# EAGLE library part ZLINEIN_CELL (library _mtvl.cells)
Dual Balanced Input "cell" vith servo DC offset correction. Designed by Kirill V.Trepakov 2014 - 2018
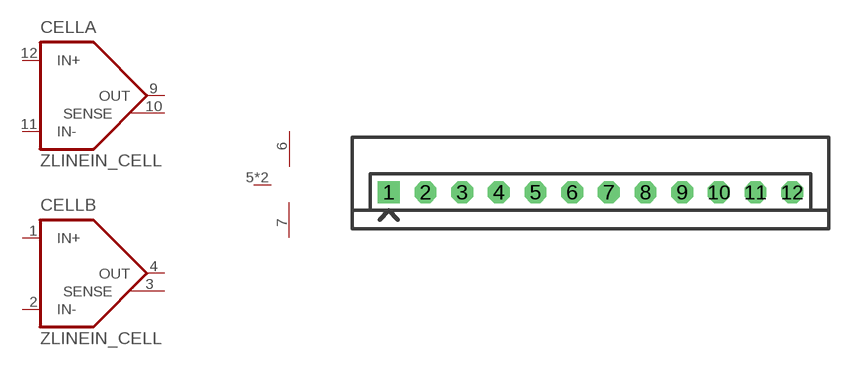
[diagram p2: symbol with the pads of SIP-12-H; footprint SIP-12-H]

Designator prefix CELL; gates A=BAL_RECEIVER B=BAL_RECEIVER G$3=PWR+/-/GND

## ZLINEIN_CELL  [SIP-12-H]
1  B:IN+
2  B:IN-
3  B:SENSE
4  B:OUT
5  G$3:GND  pwr
6  G$3:V+  pwr
7  G$3:V-  pwr
8  G$3:GND  pwr
9  A:OUT
10  A:SENSE
11  A:IN-
12  A:IN+

## Footprint SIP-12-H (pad centres in mm)
drill 1 square: 1 -13.97,0
drill 1 octagon: 2 -11.43,0; 3 -8.89,0; 4 -6.35,0; 5 -3.81,0; 6 -1.27,0; 7 1.27,0; 8 3.81,0; 9 6.35,0; 10 8.89,0; 11 11.43,0; 12 13.97,0